# EAGLE library part AS-ITM-00066 (library tinycircuits)
CONN HEADER 10PS.100 DL STR GOLD
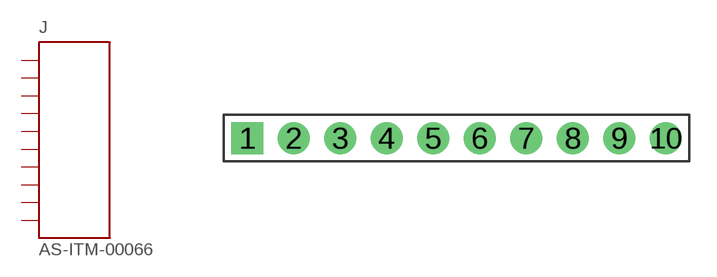
[diagram p22: symbol with the pads of 1X10_.1"_HEADER_M; footprint 1X10_.1"_HEADER_M]

Designator prefix J

## AS-ITM-00066 (PARTNO: AS-ITM-00066; VALUE: 76384-310LF)  [1X10_.1"_HEADER_M]
1  P$1
2  P$2
3  P$3
4  P$4
5  P$5
6  P$6
7  P$7
8  P$8
9  P$9
10  P$10

## Footprint 1X10_.1"_HEADER_M (pad centres in mm)
drill 1 pad 1.75 square: 1 -11.43,0
drill 1 pad 1.75: 2 -8.89,0; 3 -6.35,0; 4 -3.81,0; 5 -1.27,0; 6 1.27,0; 7 3.81,0; 8 6.35,0; 9 8.89,0; 10 11.43,0